# EAGLE library part TMP100 (library jonsowman)
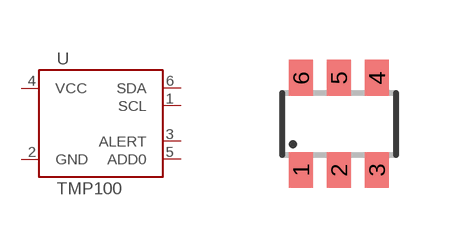
[diagram p9: symbol with the pads of SOT23-6; footprint SOT23-6]

Designator prefix -

## TMP100  [SOT23-6]
1  SCL
2  GND
3  ALERT
4  VCC
5  ADD0
6  SDA

## Footprint SOT23-6 (pad centres in mm)
Small Outline Transistor 6 lead
smd 0.6 x 0.9: 1 -0.95,-1.15; 2 0,-1.15; 3 0.95,-1.15; 4 0.95,1.15; 5 0,1.15; 6 -0.95,1.15